# EAGLE library part INA3221 (library Texas Instruments)
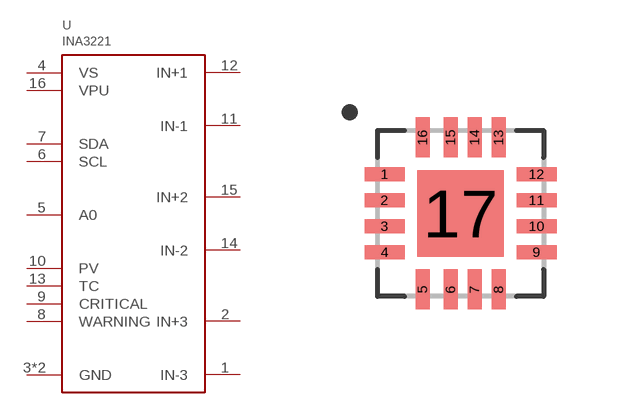
[diagram p6: symbol with the pads of VQFN16; footprint VQFN16]

Designator prefix U

## INA3221  [VQFN16]
1  IN-3
2  IN+3
3  GND
4  VS
5  A0
6  SCL
7  SDA
8  WARNING
9  CRITICAL
10  PV
11  IN-1
12  IN+1
13  TC
14  IN-2
15  IN+2
16  VPU
17  GND

## Footprint VQFN16 (pad centres in mm)
smd 1 x 0.35: 1 -1.9,0.975; 2 -1.9,0.325; 3 -1.9,-0.325; 4 -1.9,-0.975; 9 1.9,-0.975; 10 1.9,-0.325; 11 1.9,0.325; 12 1.9,0.975
smd 0.35 x 1: 5 -0.95,-1.9; 6 -0.25,-1.9; 7 0.35,-1.9; 8 0.95,-1.9; 13 0.95,1.9; 14 0.35,1.9; 15 -0.25,1.9; 16 -0.95,1.9
smd 2.16 x 2.16: 17 0,0